# EAGLE library part ESP32-S2-MINI-1 (library esp32s2mini)
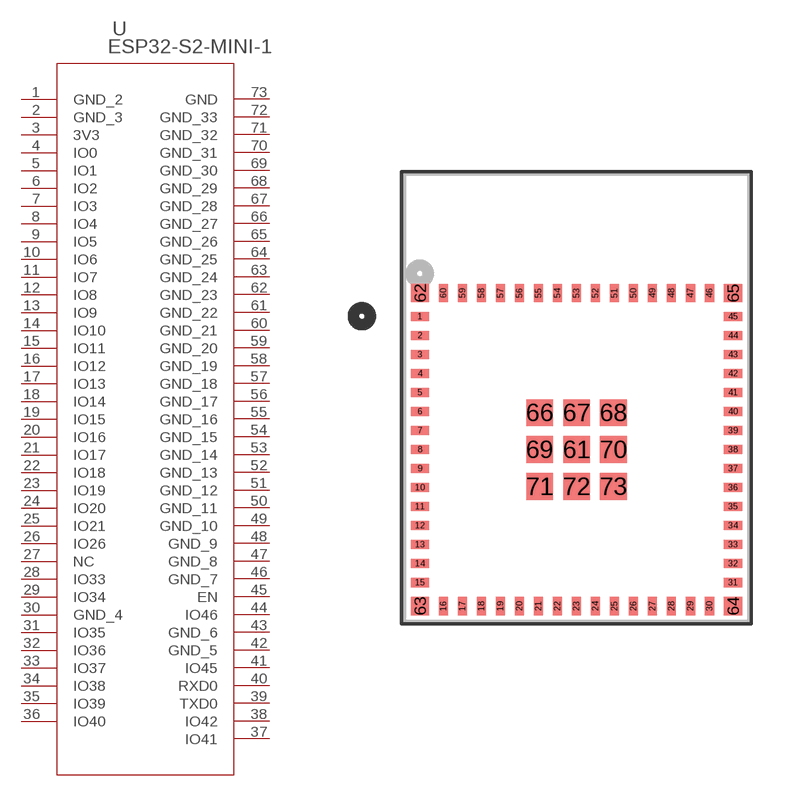
[diagram p0: symbol with the pads of QFN60_ESP32-S2-MINI-1_EXP; footprint QFN60_ESP32-S2-MINI-1_EXP]

Designator prefix U

## ESP32-S2-MINI-1 (BUILT_BY: EMA_Kyle; COPYRIGHT: Copyright (C) 2018 Accelerated Designs. All rights reserved; DATASHEET: https://www.espressif.com/sites/default/files/documentation/esp32-s2-mini-1_esp32-s2-mini-1u_datasheet_en.pdf; MANUFACTURER_PART_NUMBER: ESP32-S2-MINI-1; SOURCELIBRARY: Add_to_database_2020-11-03; VENDOR: Espressif Systems)  [QFN60_ESP32-S2-MINI-1_EXP]
1  GND_2  pas
2  GND_3  pas
3  3V3  pas
4  IO0
5  IO1
6  IO2
7  IO3
8  IO4
9  IO5
10  IO6
11  IO7
12  IO8
13  IO9
14  IO10
15  IO11
16  IO12
17  IO13
18  IO14
19  IO15
20  IO16
21  IO17
22  IO18
23  IO19
24  IO20
25  IO21
26  IO26
27  NC  nc
28  IO33
29  IO34
30  GND_4  pas
31  IO35
32  IO36
33  IO37
34  IO38
35  IO39
36  IO40
37  IO41
38  IO42
39  TXD0
40  RXD0
41  IO45
42  GND_5  pas
43  GND_6  pas
44  IO46
45  EN  pas
46  GND_7  pas
47  GND_8  pas
48  GND_9  pas
49  GND_10  pas
50  GND_11  pas
51  GND_12  pas
52  GND_13  pas
53  GND_14  pas
54  GND_15  pas
55  GND_16  pas
56  GND_17  pas
57  GND_18  pas
58  GND_19  pas
59  GND_20  pas
60  GND_21  pas
61  GND_22  pas
62  GND_23  pas
63  GND_24  pas
64  GND_25  pas
65  GND_26  pas
66  GND_27  pas
67  GND_28  pas
68  GND_29  pas
69  GND_30  pas
70  GND_31  pas
71  GND_32  pas
72  GND_33  pas
73  GND  pas

## Footprint QFN60_ESP32-S2-MINI-1_EXP (pad centres in mm)
smd 0.813 x 0.406: 1 -7,3.645; 2 -7,2.795; 3 -7,1.945; 4 -7,1.095; 5 -7,0.245; 6 -7,-0.605; 7 -7,-1.455; 8 -7,-2.305; 9 -7,-3.155; 10 -7,-4.005; 11 -7,-4.855; 12 -7,-5.705; 13 -7,-6.555; 14 -7,-7.405; 15 -7,-8.255; 31 7,-8.255; 32 7,-7.405; 33 7,-6.555; 34 7,-5.705; 35 7,-4.855; 36 7,-4.005; 37 7,-3.155; 38 7,-2.305; 39 7,-1.455; 40 7,-0.605; 41 7,0.245; 42 7,1.095; 43 7,1.945; 44 7,2.795; 45 7,3.645
smd 0.406 x 0.813: 16 -5.95,-9.305; 17 -5.1,-9.305; 18 -4.25,-9.305; 19 -3.4,-9.305; 20 -2.55,-9.305; 21 -1.7,-9.305; 22 -0.85,-9.305; 23 0,-9.305; 24 0.85,-9.305; 25 1.7,-9.305; 26 2.55,-9.305; 27 3.4,-9.305; 28 4.25,-9.305; 29 5.1,-9.305; 30 5.95,-9.305; 46 5.95,4.695; 47 5.1,4.695; 48 4.25,4.695; 49 3.4,4.695; 50 2.55,4.695; 51 1.7,4.695; 52 0.85,4.695; 53 0,4.695; 54 -0.85,4.695; 55 -1.7,4.695; 56 -2.55,4.695; 57 -3.4,4.695; 58 -4.25,4.695; 59 -5.1,4.695; 60 -5.95,4.695
smd 1.194 x 1.194: 61 0,-2.305; 66 -1.65,-0.655; 67 0,-0.655; 68 1.65,-0.655; 69 -1.65,-2.305; 70 1.65,-2.305; 71 -1.65,-3.955; 72 0,-3.955; 73 1.65,-3.955
smd 0.813 x 0.813: 62 -7,4.695; 63 -7,-9.305; 64 7,-9.305; 65 7,4.695